# Altium schematic symbol library 升降压稳压器.SchLib: 4 symbols
Pins are listed as number, name and electrical type; pins without a type are passive.

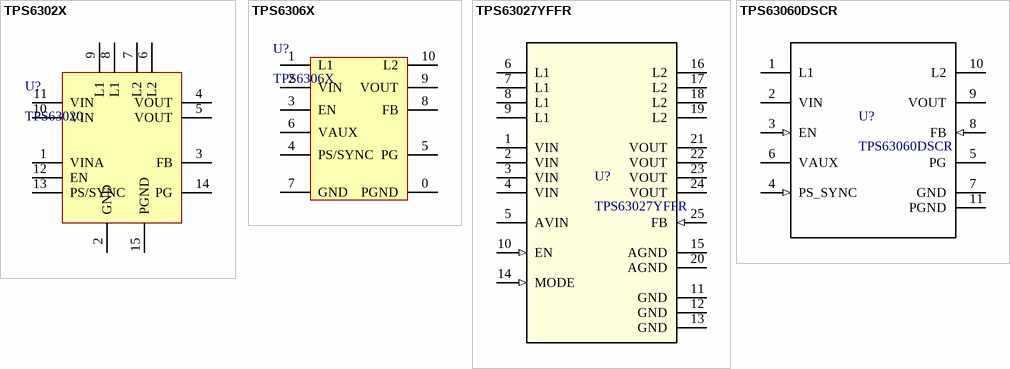
[diagram p0: symbols TPS6302X to TPS63060DSCR]

## TPS6302X
designator U?, comment TPS63020
具有4A 开关的TPS6302x 高效率单电感器降压/升压转换器
footprint TPS6302X
pins: 1 VINA, 2 GND, 3 FB, 4 VOUT, 5 VOUT, 6 L2, 7 L2, 8 L1, 9 L1, 10 VIN, 11 VIN, 12 EN, 13 PS/SYNC, 14 PG, 15 PGND

## TPS6306X
designator U?
开关电流为2A 的高输入电压降压- 升压转换器
footprint TPS6306X
pins: 0 PGND, 1 L1, 2 VIN, 3 EN, 4 PS/SYNC, 5 PG, 6 VAUX, 7 GND, 8 FB, 9 VOUT, 10 L2

## TPS63027YFFR
designator U?
TPS63027 高电流、高效单电感器降压-升压转换器; Manufacturer: Texas Instruments; PartNumber: TPS63027YFFR; RefDes: RefDes; Type: DEV; Value: Value; Copyright: Copyright (C) 2018 Accelerated Designs. All rights reserved
footprint YFF0025AFAF
pins: 1 VIN (power), 2 VIN (power), 3 VIN (power), 4 VIN (power), 5 AVIN (power), 6 L1, 7 L1, 8 L1, 9 L1, 10 EN (in), 11 GND (power), 12 GND (power), 13 GND (power), 14 MODE (in), 15 AGND (power), 16 L2, 17 L2, 18 L2, 19 L2, 20 AGND (power), 21 VOUT (power), 22 VOUT (power), 23 VOUT (power), 24 VOUT (power), 25 FB (in)

## TPS63060DSCR
designator U?
开关电流为2A 的高输入电压降压- 升压转换器; Manufacturer: Texas Instruments; CompType: IC; PIN_COUNT: 11; Application_BuildNumber: *; PartNumber: TPS63060DSC; PackageReference: DSC0010E; MountType: SMT; RoHS: Y; RefDes: RefDes; Type: DEV; Value: Value; Copyright: Copyright (C) 2018 Accelerated Designs. All rights reserved
footprint DSC0010E
pins: 1 L1 (power), 2 VIN (power), 3 EN (in), 4 PS_SYNC (in), 5 PG (oc), 6 VAUX, 7 GND (power), 8 FB (in), 9 VOUT (power), 10 L2 (power), 11 PGND (power)